# Altium footprint library AG.Connectors.PcbLib: 30 footprints (part 2 of 2)
Each footprint in its own frame and in the unit in brackets; x right, y up, seen from the top. Pads: shape width x height; smd on the part's side, far side on the other; paste and mask are expansions set on the pad; w line width, h text height; cw(c..) or ccw(c..) is an arc to the next point about the centre after c.
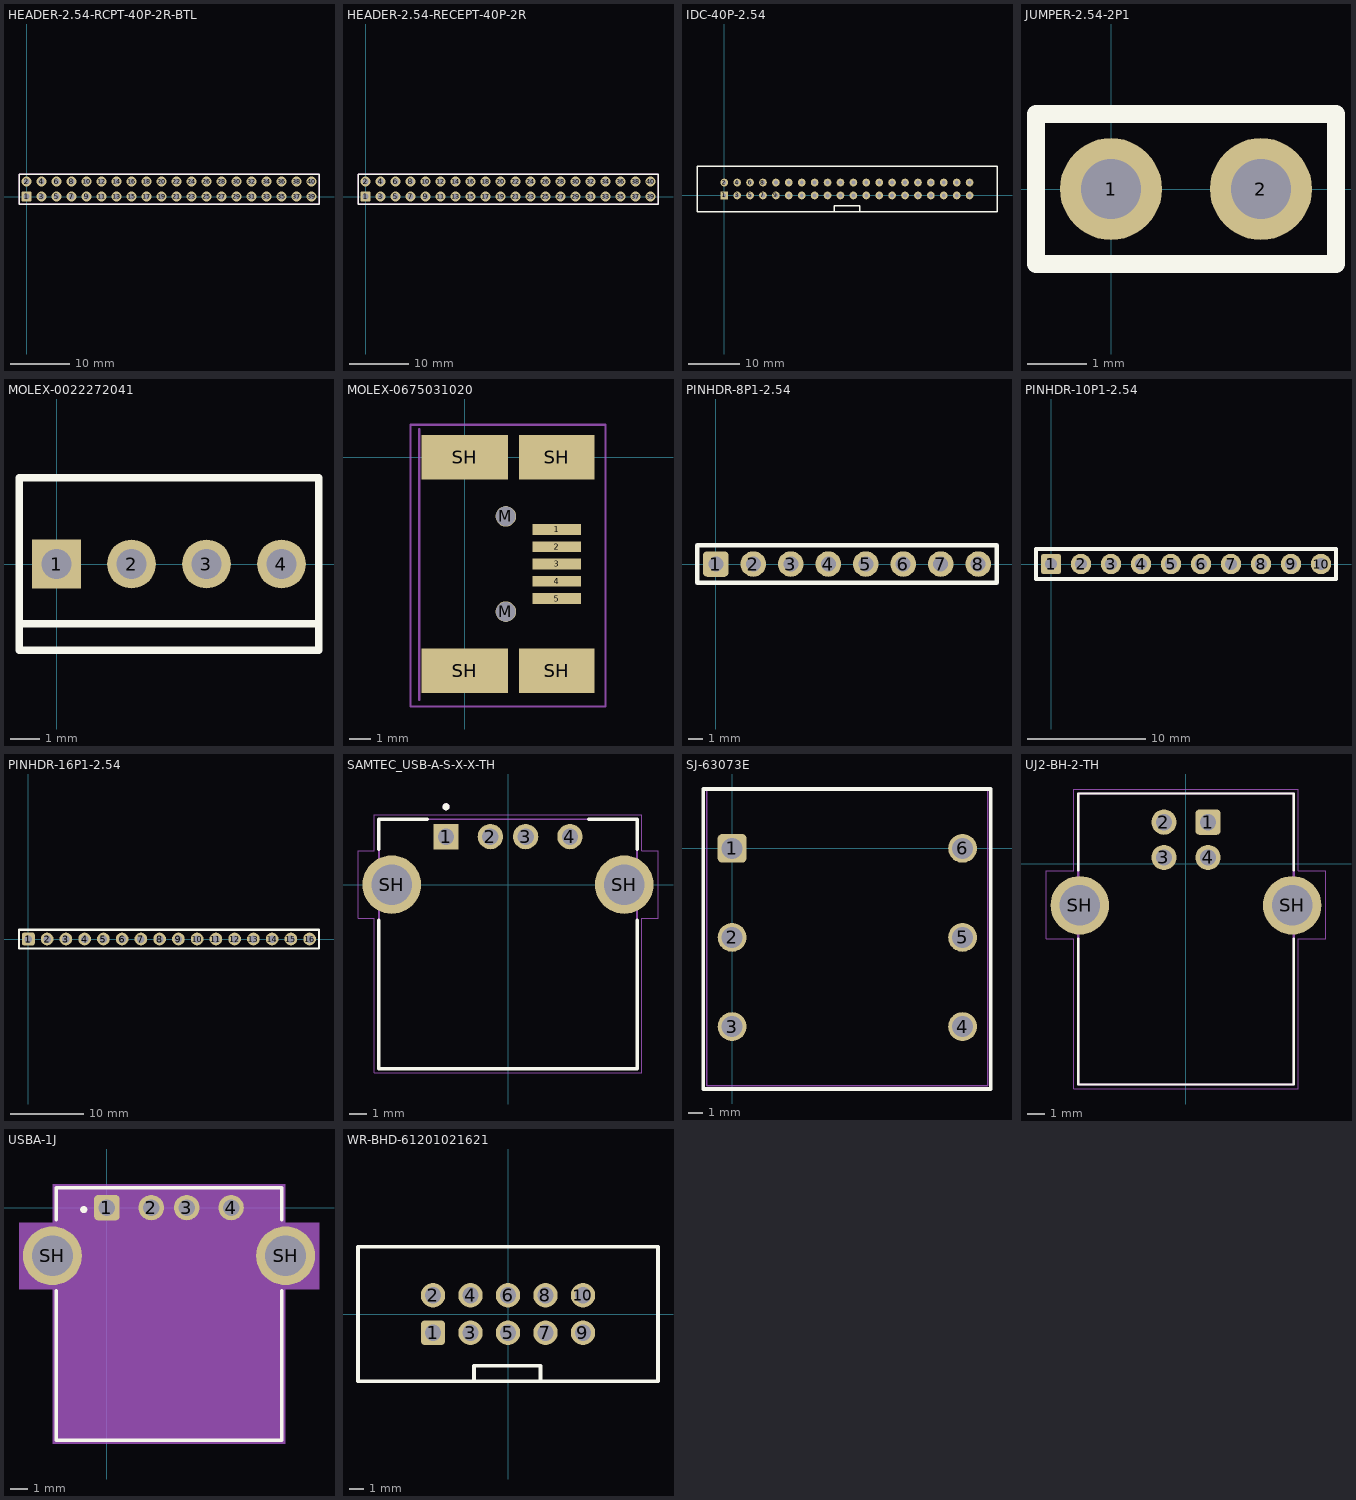
[diagram p1: the footprints below, top view; thin cyan lines are the x and y axes]

## HEADER-2.54-RCPT-40P-2R-BTL [mil] "40 Position Receptacle, Bottom or Top Entry Connector 0.100\" (2.54mm) Through Hole Gold Reverse"
height 245
pads (40):
  rrect30% 68x68 hole 38: 1(0,0)
  round 68 hole 38: 2(0,100) 3(100,0) 4(100,100) 5(200,0) 6(200,100) 7(300,0) 8(300,100) 9(400,0) 10(400,100) 11(500,0) 12(500,100) 13(600,0) 14(600,100) 15(700,0) 16(700,100) 17(800,0) 18(800,100) 19(900,0) 20(900,100) 21(1000,0) 22(1000,100) 23(1100,0) 24(1100,100) 25(1200,0) 26(1200,100) 27(1300,0) 28(1300,100) 29(1400,0) 30(1400,100) 31(1500,0) 32(1500,100) 33(1600,0) 34(1600,100) 35(1700,0) 36(1700,100) 37(1800,0) 38(1800,100) 39(1900,0) 40(1900,100)
Top Overlay:
  lines w10: -50,-50 -50,150 1950,150 1950,-50 -50,-50
Mechanical 15:
  lines w10: -50,-50 -50,150 1950,150 1950,-50 -50,-50
3D body "2-534998-0.STEP": height 108, standoff -282, extent -49.99,-48.99 1950.01,149

## HEADER-2.54-RECEPT-40P-2R [mil] "40 Position Receptacle, Bottom or Top Entry Connector 0.100\" (2.54mm) Through Hole Gold"
height 245
pads (40):
  rrect30% 68x68 hole 38: 1(0,0)
  round 68 hole 38: 2(0,100) 3(100,0) 4(100,100) 5(200,0) 6(200,100) 7(300,0) 8(300,100) 9(400,0) 10(400,100) 11(500,0) 12(500,100) 13(600,0) 14(600,100) 15(700,0) 16(700,100) 17(800,0) 18(800,100) 19(900,0) 20(900,100) 21(1000,0) 22(1000,100) 23(1100,0) 24(1100,100) 25(1200,0) 26(1200,100) 27(1300,0) 28(1300,100) 29(1400,0) 30(1400,100) 31(1500,0) 32(1500,100) 33(1600,0) 34(1600,100) 35(1700,0) 36(1700,100) 37(1800,0) 38(1800,100) 39(1900,0) 40(1900,100)
Top Overlay:
  lines w10: -50,-50 -50,150 1950,150 1950,-50 -50,-50
Mechanical 15:
  lines w10: -50,-50 -50,150 1950,150 1950,-50 -50,-50
3D body "2-534998-0.STEP": height 265.08, standoff -124.92, extent -49.99,-48.99 1950.01,149

## IDC-40P-2.54 [mil] "IDC Male Socket 40 Pin 2.54 mm"
height 358.27
pads (40):
  rect 60x60 hole 30: 1(0,0)
  round 60 hole 30: 2(0,100) 3(100,0) 4(100,100) 5(200,0) 6(200,100) 7(300,0) 8(300,100) 9(400,0) 10(400,100) 11(500,0) 12(500,100) 13(600,0) 14(600,100) 15(700,0) 16(700,100) 17(800,0) 18(800,100) 19(900,0) 20(900,100) 21(1000,0) 22(1000,100) 23(1100,0) 24(1100,100) 25(1200,0) 26(1200,100) 27(1300,0) 28(1300,100) 29(1400,0) 30(1400,100) 31(1500,0) 32(1500,100) 33(1600,0) 34(1600,100) 35(1700,0) 36(1700,100) 37(1800,0) 38(1800,100) 39(1900,0) 40(1900,100)
Top Overlay:
  lines w10: 850,-127.48 850,-80 1050,-80 1050,-127.48 ; -210.79,-127.48 2112.05,-127.48 2112.05,226.85 -210.79,226.85 -210.79,-127.48

## JUMPER-2.54-2P1 [mil] "Jumper Header Single Row 2 Positions Pitch 2.54 mm"
pads (2):
  round 68 hole 40: 1(0,0) 2(100,0)
Top Overlay:
  lines w12: 30,-50 -50,-50 ; -50,-50 150,-50 150,50 -50,50 -50,-50

## MOLEX-0022272041 [mil] "CONN HEADER VERT 4POS 2.54MM"
height 460
pads (4):
  rect 65x65 hole 40: 1(0,0)
  round 65 hole 40: 2(100,0) 3(200,0) 4(300,0)
Top Overlay:
  lines w10: -50,-80 350,-80 ; -50,-115 -50,115 350,115 350,-115 -50,-115

## MOLEX-0675031020 [mm] "CONN RCPT USB2.0 MINI B SMD R/A"
height 3.95
pads (11):
  rect 2.25x0.5 smd: 1(4.25,-3.325) 2(4.25,-4.125) 3(4.25,-4.925) 4(4.25,-5.725) 5(4.25,-6.525)
  round 0.95 hole 0.9 unplated mask-1: M(1.9,-7.125) M(1.9,-2.725)
  rect 4x2.05 smd: SH(0,-9.85) SH(0,0)
  rect 3.5x2.05 smd: SH(4.25,-9.85) SH(4.25,0)
Mechanical 13:
  lines w0.1: -2.1,-11.2 -2.1,1.3
  text "PCB Edge" at -2.3,-9.8 h0.38
Mechanical 15:
  lines w0.1: -2.5,-11.5 -2.5,1.5 6.5,1.5 6.5,-11.5 -2.5,-11.5
3D body "675031020-MOLEX-MINI-USB-TYPE-B.stp": height 3.95, standoff -1, extent -4,-9.9 5,0

## PINHDR-8P1-2.54 [mil] "Pin Header Single Row 8 Positions Pitch 2.54 mm"
pads (8):
  rrect30% 68x68 hole 40: 1(0,0)
  round 68 hole 40: 2(100,0) 3(200,0) 4(300,0) 5(400,0) 6(500,0) 7(600,0) 8(700,0)
Top Overlay:
  lines w12: 30,-50 -50,-50 ; -50,-50 750,-50 750,50 -50,50 -50,-50

## PINHDR-10P1-2.54 [mil] "Pin Header Single Row 10 Positions Pitch 2.54 mm"
pads (10):
  rrect30% 68x68 hole 40: 1(0,0)
  round 68 hole 40: 2(100,0) 3(200,0) 4(300,0) 5(400,0) 6(500,0) 7(600,0) 8(700,0) 9(800,0) 10(900,0)
Top Overlay:
  lines w12: 30,-50 -50,-50 ; -50,-50 950,-50 950,50 -50,50 -50,-50

## PINHDR-16P1-2.54 [mil] "Pin Header Single Row 16 Positions Pitch 2.54 mm"
pads (16):
  rrect30% 68x68 hole 40: 1(0,0)
  round 68 hole 40: 2(100,0) 3(200,0) 4(300,0) 5(400,0) 6(500,0) 7(600,0) 8(700,0) 9(800,0) 10(900,0) 11(1000,0) 12(1100,0) 13(1200,0) 14(1300,0) 15(1400,0) 16(1500,0)
Top Overlay:
  lines w12: 30,-50 -50,-50 ; -50,-50 1550,-50 1550,50 -50,50 -50,-50

## SAMTEC_USB-A-S-X-X-TH [mm] "CONN RCPT USB2.0 TYPEA 4POS RA"
pads (6):
  rect 1.428x1.428 hole 0.92: 1(-3.5,2.71)
  round 1.428 hole 0.92: 2(-1,2.71) 3(1,2.71) 4(3.5,2.71)
  round 3.316 hole 2.3: SH(-6.57,0) SH(6.57,0)
Top Overlay:
  circle w0.2: c-3.5,4.4 r0.1
  lines w0.2: -7.3,-2.01 -7.3,-10.4 7.3,-10.4 7.3,-2.01 ; -7.3,2.01 -7.3,3.7 -4.565,3.7 ; 4.565,3.7 7.3,3.7 7.3,2.01
Mechanical 13:
  circle w0.2: c-3.5,4.4 r0.1
  lines w0.1: -7.3,-10.4 7.3,-10.4 7.3,3.7 -7.3,3.7 -7.3,-10.4
Mechanical 15:
  lines w0.05: -8.48,-1.91 -7.55,-1.91 -7.55,-10.65 7.55,-10.65 7.55,-1.91 8.48,-1.91 8.48,1.91 7.55,1.91 7.55,3.95 -7.55,3.95 -7.55,1.91 -8.48,1.91 -8.48,-1.91
3D body "USB-A-S-S-W-TH.stp": height 7.47, standoff -4.42, extent -7.874,-10.352 7.875,3.748

## SJ-63073E [mm] "1/4\" Stereo Jack PCB Receptacle"
height 15.5
pads (6):
  rrect30% 2.032x2.032 hole 1.5: 1(0,0)
  round 2.032 hole 1.5: 2(0,-6.3) 3(0,-12.6) 4(16.3,-12.6) 5(16.3,-6.3) 6(16.3,0)
Top Overlay:
  lines w0.254: -2.032,-17.018 18.288,-17.018 18.288,4.2 -2.032,4.2 -2.032,-17.018
Mechanical 13:
  lines w0.1: -1.8,-16.8 -1.8,4.2 18.1,4.2 18.1,-16.8 -1.8,-16.8

## UJ2-BH-2-TH [mm] "USB 2.0 Type B Receptacle (CUI UJ2-BH-2-TH)"
height 10.922
pads (6):
  rrect30% 1.428x1.428 hole 0.92: 1(1.25,2.355)
  round 1.428 hole 0.92: 2(-1.25,2.355) 3(-1.25,0.355) 4(1.25,0.355)
  round 3.316 hole 2.3: SH(-6.02,-2.355) SH(6.02,-2.355)
Top Overlay:
  lines w0.127: -6.1,-4.255 -6.1,-12.515 6.1,-12.515 6.1,-4.255 ; -6.1,-0.385 -6.1,3.985 6.1,3.985 6.1,-0.385
Mechanical 13:
  circle w0.4: c1.25,2.355 r0.2
  lines w0.127: -6.1,-12.515 -6.1,3.985 6.1,3.985 6.1,-12.515 -6.1,-12.515
Mechanical 15:
  lines w0.05: -7.92,-4.255 -7.92,-0.385 -6.35,-0.385 -6.35,4.235 6.35,4.235 6.35,-0.385 7.92,-0.385 7.92,-4.265 6.35,-4.265 6.35,-12.765 -6.35,-12.765 -6.35,-4.255 -7.92,-4.255
3D body "CUI_DEVICES_UJ2-BH-2-TH.sldprt": height 11.1, standoff -3.1, extent -7.52,-12.473 7.48,3.977

## USBA-1J [mm] "USB-A 2.0 Receptacle Connector 4 Position Through Hole Right Angle"
pads (6):
  rrect30% 1.428x1.428 hole 0.92: 1(0,0)
  round 1.428 hole 0.92: 2(2.5,0) 3(4.5,0) 4(7,0)
  round 3.316 hole 2.3: SH(-3.07,-2.71) SH(10.07,-2.71)
Top Overlay:
  circle w0.2: c-1.3,-0.11 r0.1
  lines w0.2: -2.85,-4.69 -2.85,-13.09 9.85,-13.09 9.85,-4.69 ; -2.85,-0.69 -2.85,1.11 9.85,1.11 9.85,-0.69
Mechanical 13:
  lines w0.1: 0.749,-11.729 0.541,-8.977 0.749,-8.977 1.008,-11.365 1.527,-11.365 1.787,-8.977 1.994,-8.977 1.735,-11.729 ; 0.748,-11.727 ccw(c1.042,-11.706) 0.956,-11.988 ; 0.957,-11.988 ccw(c1.242,-11.057) 1.526,-11.988 ; 1.527,-11.988 ccw(c1.441,-11.706) 1.735,-11.727 ; 5.265,-11.727 ccw(c5.559,-11.706) 5.473,-11.988 ; 5.265,-11.729 5.005,-8.977 5.213,-8.977 5.473,-11.365 5.992,-11.365 6.251,-8.977 6.459,-8.977 6.251,-11.729 ; 5.473,-11.988 ccw(c5.758,-11.057) 6.043,-11.988 ; 6.043,-11.988 ccw(c5.957,-11.706) 6.251,-11.727 ; -2.75,-12.99 9.75,-12.99 9.75,1.01 -2.75,1.01 -2.75,-12.99
Mechanical 15:
  region: 10.05,-0.84 11.95,-0.84 11.95,-4.59 10.05,-4.59 10.05,-13.29 -3.05,-13.29 -3.05,-4.59 -4.95,-4.59 -4.95,-0.84 -3.05,-0.84 -3.05,1.31 10.05,1.31
3D body "USB-A-S-S-W-TH.stp": height 7.47, standoff -4.42, extent -4.318,-13.019 11.431,1.081

## WR-BHD-61201021621 [mil] "IDC-10P WR-BHD Male Box Header"
height 358.27
pads (10):
  rrect30% 65x65 hole 43.31: 1(-200,-50)
  round 65 hole 43.31: 2(-200,50) 3(-100,-50) 4(-100,50) 5(0,-50) 6(0,50) 7(100,-50) 8(100,50) 9(200,-50) 10(200,50)
Top Overlay:
  lines w10: -90.55,-179.13 -90.55,-137.8 86.61,-137.8 86.61,-179.13 ; -400,-179.13 -400,179.13 400,179.13 400,-179.13 -400,-179.13
3D body "WURTH_61201021621.stp": height 358.27, standoff -118.11, extent -400,-174.13 401.58,184.14